# EAGLE library part ADG904BCPZ (library ADG904BCPZ)
Analog Devices ADG904BCPZ, Multiplexer Single 4:1, 20-Pin LFCSP Source: Datasheet <https://mouser.componentsearchengine.com/Datasheets/2/ADG904BCPZ.pdf>
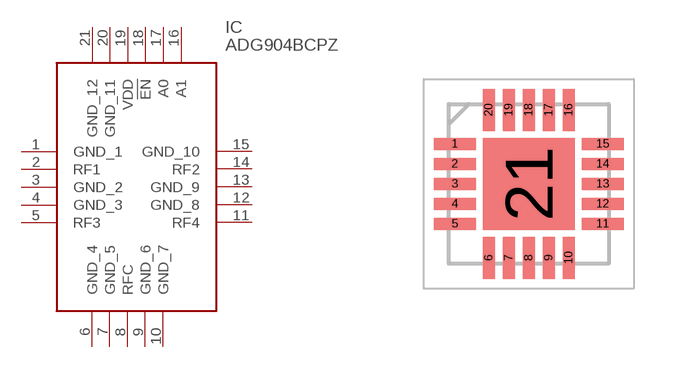
[diagram p0: symbol with the pads of QFN50P400X400X80-21N; footprint QFN50P400X400X80-21N]

Designator prefix IC

## ADG904BCPZ (Arrow_Part_Number: ADG904BCPZ; Arrow_Price-Stock: https://www.arrow.com/en/products/adg904bcpz/analog-devices?region=nac; Description: Analog Devices ADG904BCPZ, Multiplexer Single 4:1, 20-Pin LFCSP; Height: 0.8mm; Manufacturer_Name: Analog Devices; Manufacturer_Part_Number: ADG904BCPZ; Mouser_Part_Number: 584-ADG904BCPZ; Mouser_Price-Stock: https://www.mouser.co.uk/ProductDetail/Analog-Devices/ADG904BCPZ?qs=BpaRKvA4VqHRSAU%252Bp4VDug%3D%3D)  [QFN50P400X400X80-21N]
1  GND_1  pwr
2  RF1
3  GND_2  pwr
4  GND_3  pwr
5  RF3
6  GND_4  pwr
7  GND_5  pwr
8  RFC
9  GND_6  pwr
10  GND_7  pwr
11  RF4
12  GND_8  pwr
13  GND_9  pwr
14  RF2
15  GND_10  pwr
16  A1  in
17  A0  in
18  !EN  in
19  VDD  pwr
20  GND_11  pwr
21  GND_12  pwr

## Footprint QFN50P400X400X80-21N (pad centres in mm)
CP-20-6 (LFCSP)
smd 1.05 x 0.3: 1 -1.85,1; 2 -1.85,0.5; 3 -1.85,0; 4 -1.85,-0.5; 5 -1.85,-1; 11 1.85,-1; 12 1.85,-0.5; 13 1.85,0; 14 1.85,0.5; 15 1.85,1
smd 0.3 x 1.05: 6 -1,-1.85; 7 -0.5,-1.85; 8 0,-1.85; 9 0.5,-1.85; 10 1,-1.85; 16 1,1.85; 17 0.5,1.85; 18 0,1.85; 19 -0.5,1.85; 20 -1,1.85
smd 2.3 x 2.3: 21 0,0